# Altium footprint library FDFN_Microchip.PcbLib: 1 footprints
Each footprint in its own frame and in the unit in brackets; x right, y up, seen from the top. Pads: shape width x height; smd on the part's side, far side on the other; paste and mask are expansions set on the pad; w line width, h text height; cw(c..) or ccw(c..) is an arc to the next point about the centre after c.
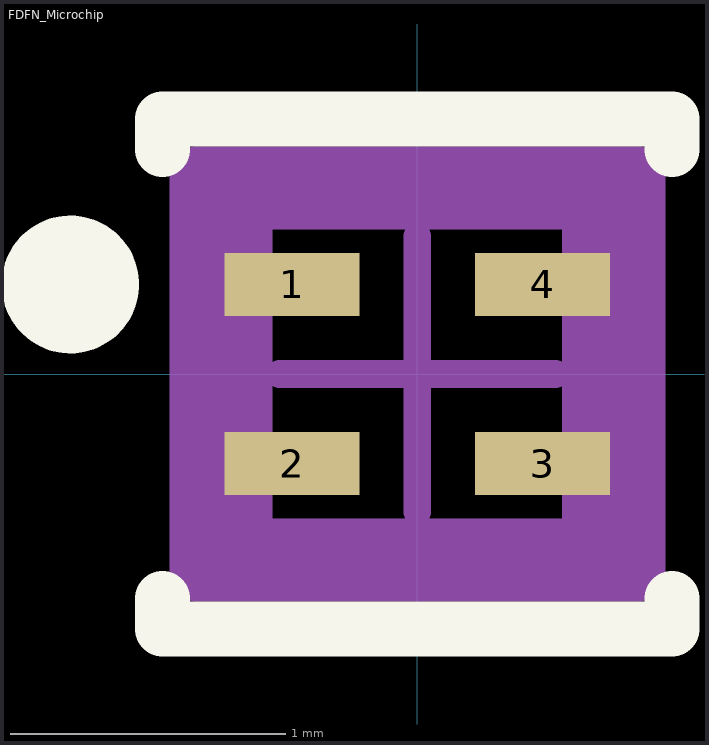
[diagram p0: the footprint, top view; thin cyan lines are the x and y axes]

## FDFN_Microchip [mm]
pads (4):
  rect 0.49x0.23 smd paste+0 mask+0: 1(-0.455,0.325) 2(-0.455,-0.325) 3(0.455,-0.325) 4(0.455,0.325)
Top Overlay:
  circle w0.25: c-1.26,0.325 r0.125
  lines w0.2: -0.925,-0.815 -0.925,-0.925 0.925,-0.925 0.925,-0.815 ; -0.925,0.815 -0.925,0.925 0.925,0.925 0.925,0.815
Top 3D Body:
  lines w0.2: -0.625,-0.625 -0.625,0.625 0.625,0.625 0.625,-0.625 -0.625,-0.625
Top Courtyard:
  lines w0.2: -0.8,-0.725 -0.8,0.725 0.8,0.725 0.8,-0.725 -0.8,-0.725
Top Assembly:
  lines w0.2: -0.8,-0.725 -0.8,0.725 0.8,0.725 0.8,-0.725 -0.8,-0.725
  text ".Designator" at 0,0.188 h1
Top Component Center:
  lines w0.1: -0.5,0 0.5,0 ; 0,-0.5 0,0.5
3D body "IC_Microchip_MIC94044YFL-TR_eec.STEP": height 0.25, standoff 0, extent -0.8,-0.725 0.8,0.725